# Altium schematic symbol library EL_Wire_Harness.SchLib: 86 symbols
Pins are listed as number, name and electrical type; pins without a type are passive.

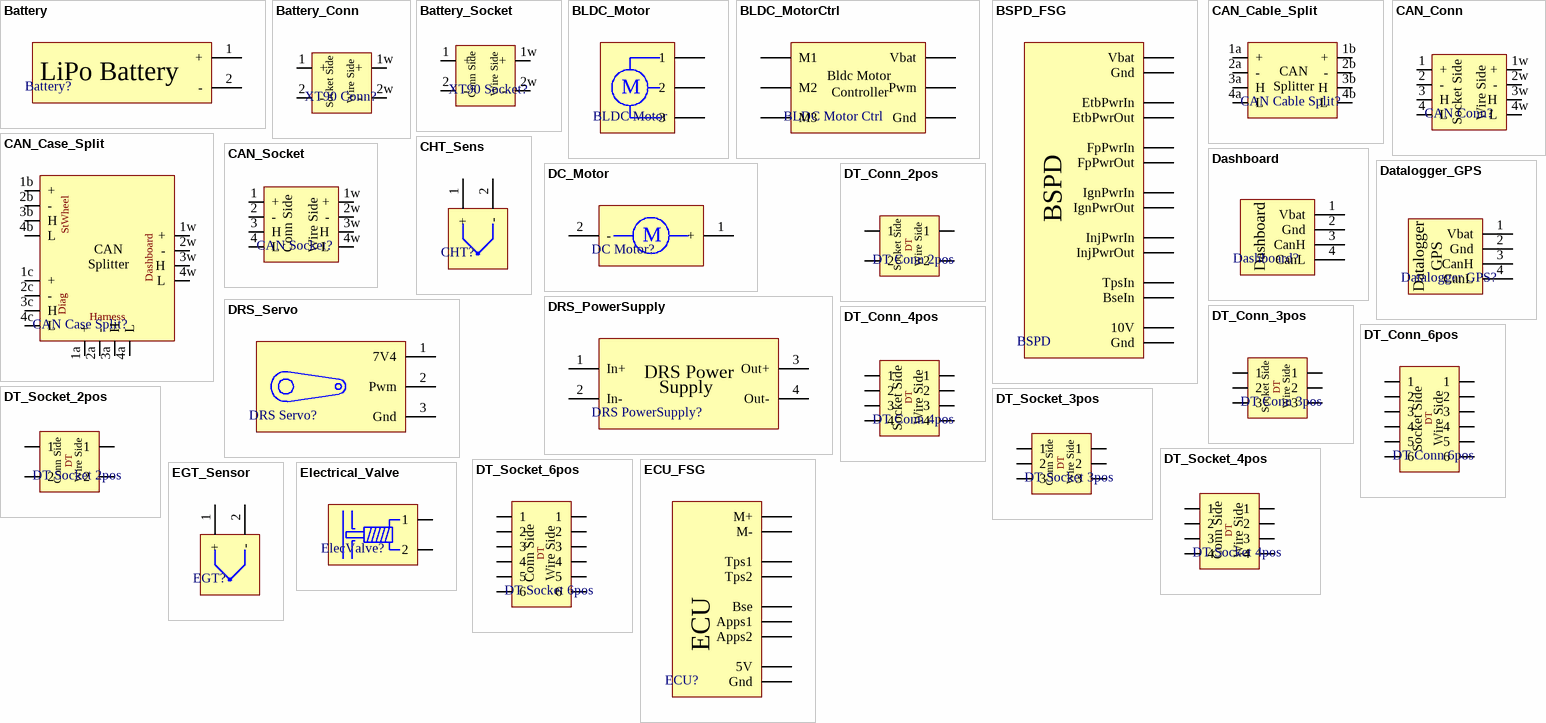
[diagram p0: symbols Battery to Electrical_Valve]

## Battery
designator Battery?, comment LiPo Battery  (value not drawn)
Type: Battery
pins: 1 +, 2 -

## Battery_Conn
designator XT90 Conn?, comment LiPo Battery Connector  (value not drawn)
Positions: 2; Type: Connector; Supplier Link: http://www.sklep.monster.pl/wtyk-2-pin-xt-90,4,55723,61930; Supplier: MONSTER-ELEKTRONIK; Use: Battery
pins: 1 +, 1w +, 2 -, 2w -
text: Socket Side; Wire Side

## Battery_Socket
designator XT90 Socket?, comment LiPo Battery Socket  (value not drawn)
Positions: 2; Type: Socket; Supplier: MONSTER-ELEKTRONIK; Supplier Link: http://www.sklep.monster.pl/gniazdo-2-pin-xt-90,4,55723,61925; Use: Battery
pins: 1 +, 1w +, 2 -, 2w -
text: Conn Side; Wire Side

## BLDC_Motor
designator BLDC Motor, comment BLDC Motor  (value not drawn)
Brushless DC Motor; Type: DC Motor
pins: 1, 2, 3
text: M

## BLDC_MotorCtrl
designator BLDC Motor Ctrl, comment BLDC Motor Ctrl  (value not drawn)
Brushless DC Motor Controller; Type: BLDC Motor Controller
pins: 1 Vbat, 2 Pwm, 3 Gnd, M1, M2, M3
text: Bldc Motor; Controller

## BSPD_FSG
designator BSPD, comment BSPD  (value not drawn)
Brake System Plausibility Device; Type: Analog Module; Supplier: Self Made/TME
pins: E1 IgnPwrOut, E2 EtbPwrIn, E3 EtbPwrOut, E4 10V, E5 Gnd, E6 InjPwrOut, E7 TpsIn, E8 BseIn, P1 FpPwrIn, P2 FpPwrOut, P5 IgnPwrIn, P9 Vbat, P13 Gnd, P14 InjPwrIn

## CAN_Cable_Split
designator CAN Cable Split?, comment CAN Cable Splitter  (value not drawn)
Type: CAN Cable Splitter; Supplier: Self Made/PCB
pins: 1a +, 1b +, 2a -, 2b -, 3a H, 3b H, 4a L, 4b L
text: CAN; Splitter

## CAN_Case_Split
designator CAN Case Split?, comment CAN Case Splitter  (value not drawn)
Type: CAN Case Splitter; Supplier: Self Made
pins: 1a +, 1b +, 1c +, 1w +, 2a -, 2b -, 2c -, 2w -, 3a H, 3b H, 3c H, 3w H, 4a L, 4b L, 4c L, 4w L
text: StWheel; CAN; Splitter; Dashboard; Diag; Harness

## CAN_Conn
designator CAN Conn?, comment CAN Connector  (value not drawn)
CAN Connector with Wire; Positions: 4; Type: Connector; Supplier: TME; Use: CAN
pins: 1 +, 1w +, 2 -, 2w -, 3 H, 3w H, 4 L, 4w L
text: Socket Side; Wire Side

## CAN_Socket
designator CAN Socket?, comment CAN Socket  (value not drawn)
CAN Socket for Wire; Positions: 4; Supplier: TME; Type: Socket; Use: CAN
pins: 1 +, 1w +, 2 -, 2w -, 3 H, 3w H, 4 L, 4w L
text: Conn Side; Wire Side

## CHT_Sens
designator CHT?, comment Cylinder Head Temp Sensor  (value not drawn)
Type: Sensor; Supplier: Ecumaster; Supplier Link: http://efishop.pl/index.php?p92,czujnik-temperatury-glowicy
pins: 1 +, 2 -

## Dashboard
designator Dashboard?  (value not drawn)
Type: CAN Module; Supplier: Self Made/TME
pins: 1 Vbat, 2 Gnd, 3 CanH, 4 CanL

## Datalogger_GPS
designator Datalogger GPS?, comment Datalogger GPS  (value not drawn)
Supplier: Self Made/TME; Type: CAN Module
pins: 1 Vbat, 2 Gnd, 3 CanH, 4 CanL
text: GPS; Datalogger

## DC_Motor
designator DC Motor?, comment DC Motor  (value not drawn)
Type: DC Motor
pins: 1 +, 2 -
text: M

## DRS_PowerSupply
designator DRS PowerSupply?, comment DRS PowerSupply  (value not drawn)
Supplier: Self Made/TME; Type: Power Supply
pins: 1 In+, 2 In-, 3 Out+, 4 Out-
text: DRS Power; Supply

## DRS_Servo
designator DRS Servo?, comment DRS Servo  (value not drawn)
Type: Servomotor; Supplier Link: https://botland.com.pl/serwa-typu-standard/2041-serwo-powerhd-hd-1235mg-gigant.html; Supplier: Botland
pins: 1 7V4, 2 Pwm, 3 Gnd

## DT_Conn_2pos
designator DT Conn 2pos, comment DEUTSCH DT Connector 2pos  (value not drawn)
DEUTSCH DT Connector 2 positions; Positions: 2; Supplier: e-connectors; Supplier Link: http://www.e-connectors.pl/pl/p/Zlacze-DEUTSCH-DT-2-pinowe/183; Type: Connector
pins: 1, 1w 1, 2, 2w 2
text: DT; Socket Side; Wire Side

## DT_Conn_3pos
designator DT Conn 3pos, comment DEUTSCH DT Connector 3pos  (value not drawn)
DEUTSCH DT Connector 3 positions; Positions: 3; Supplier: e-connectors; Supplier Link: http://www.e-connectors.pl/pl/p/Zlacze-DEUTSCH-DT-3-pinowe/184; Type: Connector
pins: 1, 1w 1, 2, 2w 2, 3, 3w 3
text: DT; Socket Side; Wire Side

## DT_Conn_4pos
designator DT Conn 4pos, comment DEUTSCH DT Connector 4pos  (value not drawn)
DEUTSCH DT Connector 4 positions; Positions: 4; Supplier: e-connectors; Supplier Link: http://www.e-connectors.pl/pl/p/Zlacze-DEUTSCH-DT-4-pinowe/185; Type: Connector
pins: 1, 1w 1, 2, 2w 2, 3, 3w 3, 4, 4w 4
text: DT; Socket Side; Wire Side

## DT_Conn_6pos
designator DT Conn 6pos, comment DEUTSCH DT Connector 6pos  (value not drawn)
DEUTSCH DT Connector 6 positions; Positions: 6; Supplier: e-connectors; Supplier Link: http://www.e-connectors.pl/pl/p/Zlacze-DEUTSCH-DT-6-pinowe/186; Type: Connector
pins: 1, 1w 1, 2, 2w 2, 3, 3w 3, 4, 4w 4, 5, 5w 5, 6, 6w 6
text: DT; Socket Side; Wire Side

## DT_Socket_2pos
designator DT Socket 2pos, comment DEUTSCH DT Socket 2pos  (value not drawn)
DEUTSCH DT Socket 2 positions; Positions: 2; Supplier: e-connectors; Supplier Link: http://www.e-connectors.pl/pl/p/Zlacze-DEUTSCH-DT-2-pinowe/183; Type: Socket
pins: 1, 1w 1, 2, 2w 2
text: DT; Conn Side; Wire Side

## DT_Socket_3pos
designator DT Socket 3pos, comment DEUTSCH DT Socket 3pos  (value not drawn)
DEUTSCH DT Socket 3 positions; Positions: 3; Supplier: e-connectors; Supplier Link: http://www.e-connectors.pl/pl/p/Zlacze-DEUTSCH-DT-3-pinowe/184; Type: Socket
pins: 1, 1w 1, 2, 2w 2, 3, 3w 3
text: DT; Conn Side; Wire Side

## DT_Socket_4pos
designator DT Socket 4pos, comment DEUTSCH DT Socket 4pos  (value not drawn)
DEUTSCH DT Socket 4 positions; Positions: 4; Supplier: e-connectors; Supplier Link: http://www.e-connectors.pl/pl/p/Zlacze-DEUTSCH-DT-4-pinowe/185; Type: Socket
pins: 1, 1w 1, 2, 2w 2, 3, 3w 3, 4, 4w 4
text: DT; Conn Side; Wire Side

## DT_Socket_6pos
designator DT Socket 6pos, comment DEUTSCH DT Socket 6pos  (value not drawn)
DEUTSCH DT Socket 6 positions; Positions: 6; Supplier: e-connectors; Supplier Link: http://www.e-connectors.pl/pl/p/Zlacze-DEUTSCH-DT-6-pinowe/186; Type: Socket
pins: 1, 1w 1, 2, 2w 2, 3, 3w 3, 4, 4w 4, 5, 5w 5, 6, 6w 6
text: DT; Conn Side; Wire Side

## ECU_FSG
designator ECU?, comment ECU  (value not drawn)
Engine Control Unit
pins: 1 M-, 2 Gnd, 3 5V, 4 M+, 5 Tps2, 6 Tps1, 7 Bse, 8 Apps1, 9 Apps2

## EGT_Sensor
designator EGT?, comment EGT Sensor  (value not drawn)
Type: Sensor; Supplier: Ecumaster; Supplier Link: http://efishop.pl/index.php?p50,czujnik-egt
pins: 1 +, 2 -

## Electrical_Valve
designator ElecValve?, comment Electrical Valve  (value not drawn)
Type: Electrical Valve
pins: 1, 2

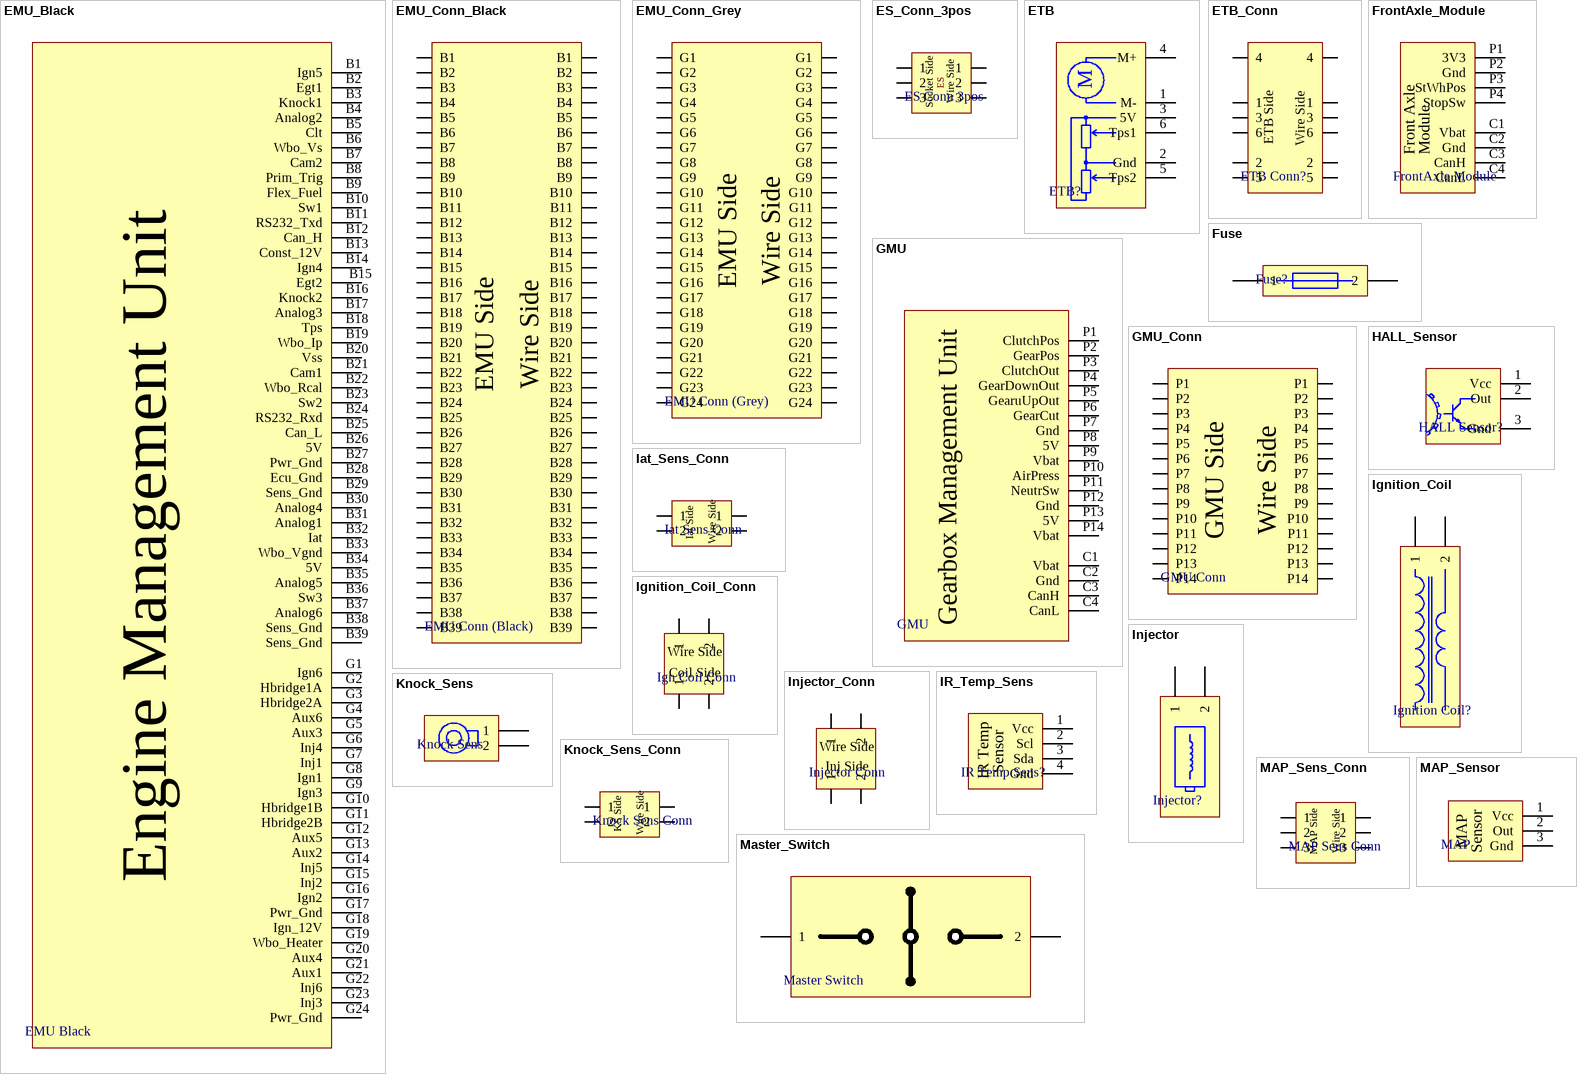
[diagram p1: symbols EMU_Black to Master_Switch]

## EMU_Black
designator EMU Black, comment ECU  (value not drawn)
ECU, EMU Black, Ecumaster; Type: ECU; Supplier: Ecumaster; Supplier Link: http://efishop.pl/index.php?p99,ecumaster-emu-black
pins:  B15 Egt2, B1 Ign5, B2 Egt1, B3 Knock1, B4 Analog2, B5 Clt, B6 Wbo_Vs, B7 Cam2, B8 Prim_Trig, B9 Flex_Fuel, B10 Sw1, B11 RS232_Txd, B12 Can_H, B13 Const_12V, B14 Ign4, B16 Knock2, B17 Analog3, B18 Tps, B19 Wbo_Ip, B20 Vss, B21 Cam1, B22 Wbo_Rcal, B23 Sw2, B24 RS232_Rxd, B25 Can_L, B26 5V, B27 Pwr_Gnd, B28 Ecu_Gnd, B29 Sens_Gnd, B30 Analog4, B31 Analog1, B32 Iat, B33 Wbo_Vgnd, B34 5V, B35 Analog5, B36 Sw3, B37 Analog6, B38 Sens_Gnd, B39 Sens_Gnd, G1 Ign6, G2 Hbridge1A, G3 Hbridge2A, G4 Aux6, G5 Aux3, G6 Inj4, G7 Inj1, G8 Ign1, G9 Ign3, G10 Hbridge1B, G11 Hbridge2B, G12 Aux5, G13 Aux2, G14 Inj5, G15 Inj2, G16 Ign2, G17 Pwr_Gnd, G18 Ign_12V, G19 Wbo_Heater, G20 Aux4, G21 Aux1, G22 Inj6, G23 Inj3, G24 Pwr_Gnd
text: Engine Management Unit

## EMU_Conn_Black
designator EMU Conn (Black), comment EMU Connector (Black)  (value not drawn)
Black Connector, EMU Black, Ecumaster; Positions: 39; Type: Connector; Supplier: Ecumaster; Supplier Link: http://efishop.pl/index.php?p101,wtyczki-emu-black; Use: EMU
pins: B1, B1w B1, B2, B2w B2, B3, B3w B3, B4, B4w B4, B5, B5w B5, B6, B6w B6, B7, B7w B7, B8, B8w B8, B9, B9w B9, B10, B10w B10, B11, B11w B11, B12, B12w B12, B13, B13w B13, B14, B14w B14, B15, B15w B15, B16, B16w B16, B17, B17w B17, B18, B18w B18, B19, B19w B19, B20, B20w B20, B21, B21w B21, B22, B22w B22, B23, B23w B23, B24, B24w B24, B25, B25w B25, B26, B26w B26, B27, B27w B27, B28, B28w B28, B29, B29w B29, B30, B30w B30, B31, B31w B31, B32, B32w B32, B33, B33w B33, B34, B34w B34, B35, B35w B35, B36, B36w B36, B37, B37w B37, B38, B38w B38, B39, B39w B39
text: Wire Side; EMU Side

## EMU_Conn_Grey
designator EMU Conn (Grey), comment EMU Connector (Grey)  (value not drawn)
Grey Connector, EMU Black, Ecumaster; Positions: 24; Type: Connector; Supplier Link: http://efishop.pl/index.php?p101,wtyczki-emu-black; Supplier: Ecumaster; Use: EMU
pins: G1, G1w G1, G2, G2w G2, G3, G3w G3, G4, G4w G4, G5, G5w G5, G6, G6w G6, G7, G7w G7, G8, G8w G8, G9, G9w G9, G10, G10w G10, G11, G11w G11, G12, G12w G12, G13, G13w G13, G14, G14w G14, G15, G15w G15, G16, G16w G16, G17, G17w G17, G18, G18w G18, G19, G19w G19, G20, G20w G20, G21, G21w G21, G22, G22w G22, G23, G23w G23, G24, G24w G24
text: Wire Side; EMU Side

## ES_Conn_3pos
designator ES Conn 3pos, comment EconoSeal Connector 3pos  (value not drawn)
EconoSeal Connector 3 positions; Positions: 3; Supplier: e-connectors; Type: Connector
pins: 1, 1w 1, 2, 2w 2, 3, 3w 3
text: ES; Socket Side; Wire Side

## ETB
designator ETB?  (value not drawn)
Electronic Throttle Body; Type: Electronic Throttle
pins: 1 M-, 2 Gnd, 3 5V, 4 M+, 5 Tps2, 6 Tps1
text: M

## ETB_Conn
designator ETB Conn?, comment ETB Connector  (value not drawn)
Electronic Throttle Body Connector; Positions: 6; Type: Connector; Use: ETB
pins: 1, 1w 1, 2, 2w 2, 3, 3w 3, 4, 4w 4, 5, 5w 5, 6, 6w 6
text: ETB Side; Wire Side

## FrontAxle_Module
designator FrontAxle Module, comment FrontAxle Module  (value not drawn)
Type: CAN Module; Supplier: Self Made/TME
pins: C1 Vbat, C2 Gnd, C3 CanH, C4 CanL, P1 3V3, P2 Gnd, P3 StWhPos, P4 StopSw
text: Front Axle; Module

## Fuse
designator Fuse?  (value not drawn)
Type: Fuse
pins: 1, 2

## GMU
designator GMU  (value not drawn)
Gearbox Management Unit; Type: CAN Module; Supplier: Self Made/TME
pins: C1 Vbat, C2 Gnd, C3 CanH, C4 CanL, P1 ClutchPos, P2 GearPos, P3 ClutchOut, P4 GearDownOut, P5 GearuUpOut, P6 GearCut, P7 Gnd, P8 5V, P9 Vbat, P10 AirPress, P11 NeutrSw, P12 Gnd, P13 5V, P14 Vbat

## GMU_Conn
designator GMU Conn, comment GMU Connector  (value not drawn)
GMU Peripheral Connector; Positions: 14; Type: Connector; Supplier: Mouser; Use: GMU
pins: P1, P1w P1, P2, P2w P2, P3, P3w P3, P4, P4w P4, P5, P5w P5, P6, P6w P6, P7, P7w P7, P8, P8w P8, P9, P9w P9, P10, P10w P10, P11, P11w P11, P12, P12w P12, P13, P13w P13, P14, P14w P14
text: Wire Side; GMU Side

## HALL_Sensor
designator HALL Sensor?, comment HALL Effect Sensor  (value not drawn)
Type: Sensor; Supplier: TME
pins: 1 Vcc, 2 Out, 3 Gnd

## Iat_Sens_Conn
designator Iat Sens Conn, comment Iat Sensor Connector  (value not drawn)
Positions: 2; Supplier Link: http://efishop.pl/index.php?p30,wtyczka-bosch-ev1; Supplier: Ecumaster; Type: Connector; Use: IAT
pins: 1, 1w 1, 2, 2w 2
text: Iat Side; Wire Side

## Ignition_Coil
designator Ignition Coil?, comment Ignition Coil  (value not drawn)
Ignition Coil, Honda; Type: Ignition Coil
pins: 1, 2

## Ignition_Coil_Conn
designator Ign Coil Conn, comment Ignition Coil Connector  (value not drawn)
Ignition Coil Connector, Honda; Positions: 2; Type: Connector; Supplier: e-connectors; Use: Ignition coil
pins: 1, 1w 1, 2, 2w 2
text: Wire Side; Coil Side

## Injector
designator Injector?  (value not drawn)
Type: Injector
pins: 1, 2

## Injector_Conn
designator Injector Conn, comment Injector Connector  (value not drawn)
Positions: 2; Type: Connector; Supplier: e-connectors; Supplier Link: https://www.e-connectors.pl/pl/p/Wtyczka-JPT-2-pinowa-z-oslona/509; Use: Injector
pins: 1, 1w 1, 2, 2w 2
text: Wire Side; Inj Side

## IR_Temp_Sens
designator IR Temp Sens?, comment IR Temp Sensor  (value not drawn)
Supplier: Self Made/TME; Type: Sensor
pins: 1 Vcc, 2 Scl, 3 Sda, 4 Gnd
text: IR Temp

## Knock_Sens
designator Knock Sens, comment Knock Sensor  (value not drawn)
Supplier Link: http://efishop.pl/index.php?p91,czujnik-spalania-stukowego-bosch; Supplier: Ecumaster; Type: Sensor
pins: 1, 2

## Knock_Sens_Conn
designator Knock Sens Conn, comment Knock Sensor Connector  (value not drawn)
Positions: 2; Supplier Link: http://efishop.pl/index.php?p30,wtyczka-bosch-ev1; Supplier: Ecumaster; Type: Connector; Use: Knock sensor
pins: 1, 1w 1, 2, 2w 2
text: KS Side; Wire Side

## MAP_Sens_Conn
designator MAP Sens Conn, comment MAP Sensor Connector  (value not drawn)
Positions: 3; Supplier: Honda harness; Type: Connector; Use: MAP sensor
pins: 1, 1w 1, 2, 2w 2, 3, 3w 3
text: MAP Side; Wire Side

## MAP_Sensor
designator MAP, comment MAP Sensor  (value not drawn)
Type: Sensor
pins: 1 Vcc, 2 Out, 3 Gnd

## Master_Switch
designator Master Switch, comment Master Switch  (value not drawn)
Type: Switch; Supplier: 2Brally; Supplier Link: https://motorsport.2brally.pl/pl/wylacznik-glowny-pradu-6-polowy-fia.html
pins: 1, 2

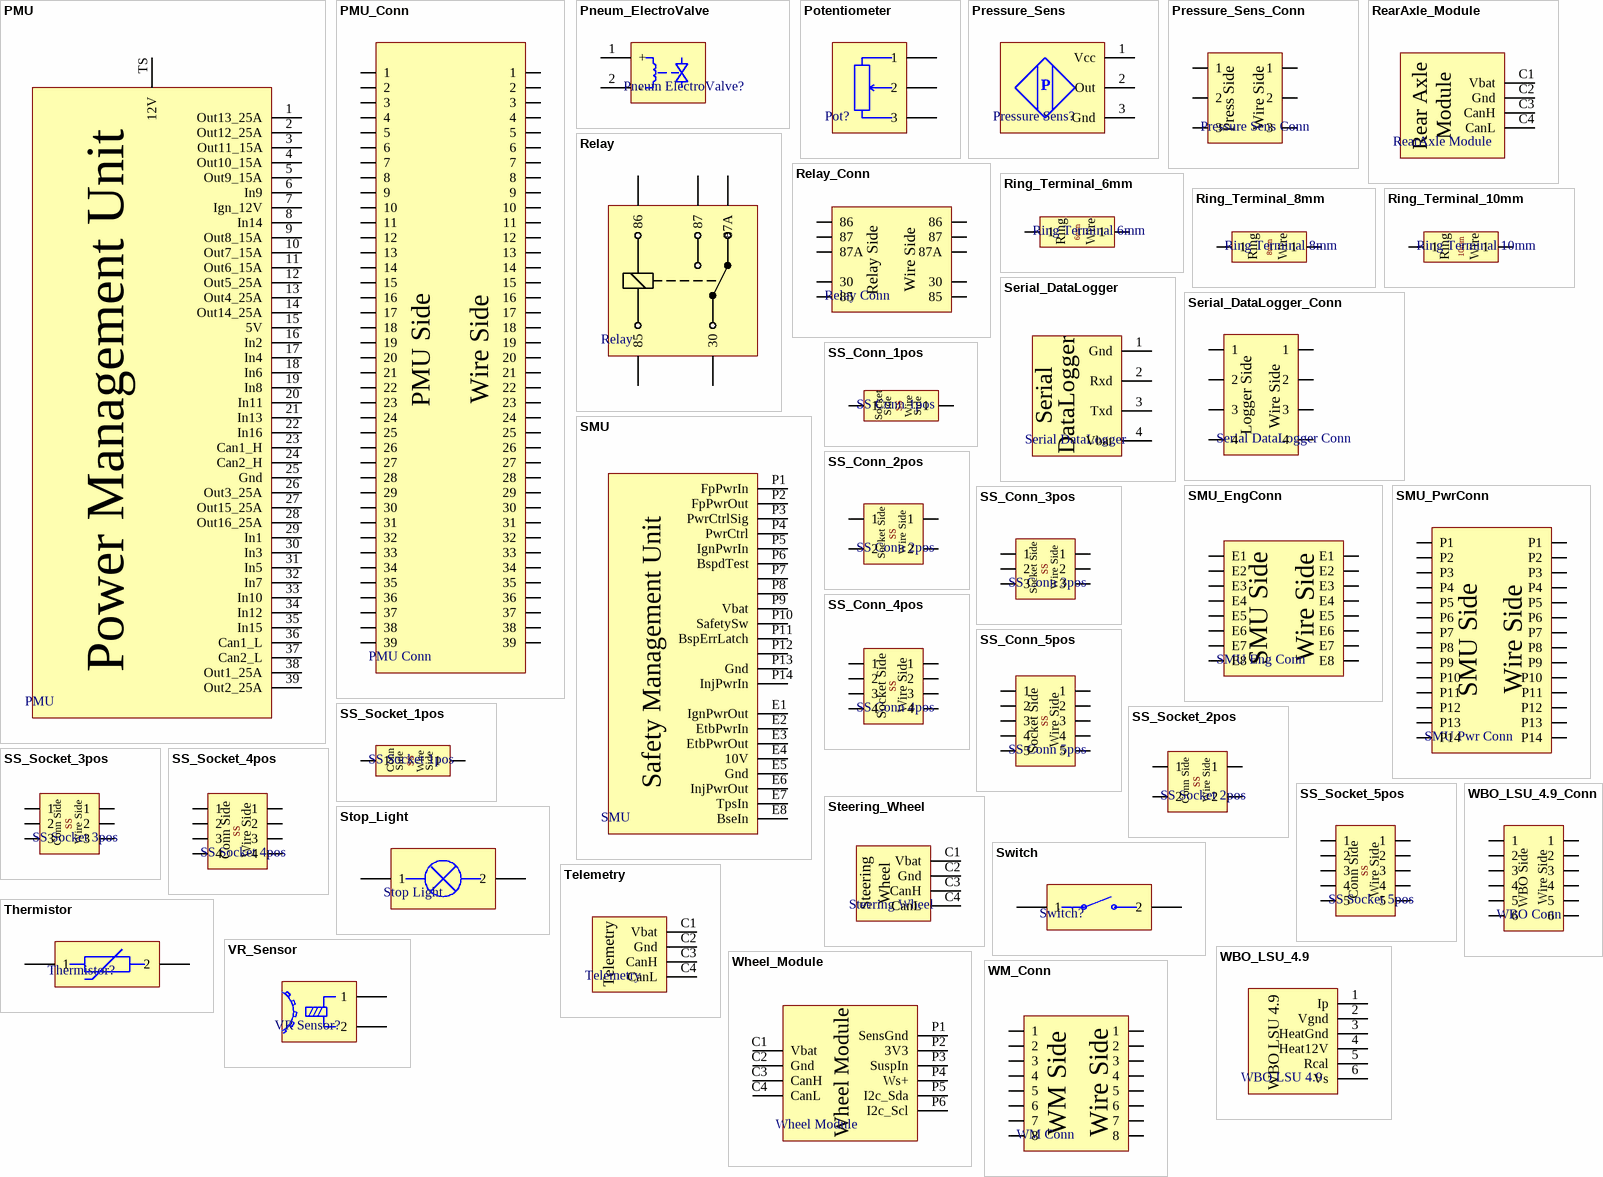
[diagram p2: symbols PMU to WM_Conn]

## PMU
designator PMU  (value not drawn)
Power Management Unit, Ecumaster; Type: PMU; Supplier: Ecumaster; Supplier Link: http://efishop.pl/index.php?p121,ecumaster-pmu16-dl
pins: 1 Out13_25A, 2 Out12_25A, 3 Out11_15A, 4 Out10_15A, 5 Out9_15A, 6 In9, 7 Ign_12V, 8 In14, 9 Out8_15A, 10 Out7_15A, 11 Out6_15A, 12 Out5_25A, 13 Out4_25A, 14 Out14_25A, 15 5V, 16 In2, 17 In4, 18 In6, 19 In8, 20 In11, 21 In13, 22 In16, 23 Can1_H, 24 Can2_H, 25 Gnd, 26 Out3_25A, 27 Out15_25A, 28 Out16_25A, 29 In1, 30 In3, 31 In5, 32 In7, 33 In10, 34 In12, 35 In15, 36 Can1_L, 37 Can2_L, 38 Out1_25A, 39 Out2_25A, TS 12V
text: Power Management Unit

## PMU_Conn
designator PMU Conn, comment PMU Connector  (value not drawn)
PMU Connector, Ecumaster; Positions: 39; Type: Connector; Supplier: Ecumaster; Supplier Link: http://efishop.pl/index.php?p121,ecumaster-pmu16-dl; Use: PMU
pins: 1, 1w 1, 2, 2w 2, 3, 3w 3, 4, 4w 4, 5, 5w 5, 6, 6w 6, 7, 7w 7, 8, 8w 8, 9, 9w 9, 10w 10, 11, 11w 11, 12, 12w 12, 13, 13w 13, 14, 14w 14, 15, 15w 15, 16, 16w 16, 17, 17w 17, 18, 18w 18, 19, 19w 19, 20, 20w 20, 21, 21w 21, 22, 22w 22, 23, 23w 23, 24, 24w 24, 25, 25w 25, 26, 26w 26, 27, 27w 27, 28, 28w 28, 29, 29w 29, 30, 30w 30, 31, 31w 31, 32, 32w 32, 33, 33w 33, 34, 34w 34, 35, 35w 35, 36, 36w 36, 37, 37w 37, 38, 38w 38, 39, 39w 39, OUT_7_15A 10
text: Wire Side; PMU Side

## Pneum_ElectroValve
designator Pneum ElectroValve?, comment Pneumatic ElectroValve  (value not drawn)
Type: Electrovalve
pins: 1 +, 2 -

## Potentiometer
designator Pot?  (value not drawn)
Type: Sensor; Supplier: Self Made/TME
pins: 1, 2, 3

## Pressure_Sens
designator Pressure Sens?, comment Pressure Sensor  (value not drawn)
Type: Sensor; Supplier: Ecumaster; Supplier Link: http://efishop.pl/index.php?p64,10-barowy-czujnik-cisnienia-oleju
pins: 1 Vcc, 2 Out, 3 Gnd
text: P

## Pressure_Sens_Conn
designator Pressure Sens Conn, comment Pressure Sensor Connector  (value not drawn)
Positions: 3; Supplier Link: http://efishop.pl/index.php?p105,wtyczka-czujnika-cisnienia-7bar-10bar; Supplier: Ecumaster; Type: Connector; Use: Pressure sensor
pins: 1, 1w 1, 2, 2w 2, 3, 3w 3
text: Wire Side; Press Side

## RearAxle_Module
designator RearAxle Module, comment RearAxle Module  (value not drawn)
Type: CAN Module; Supplier: Self Made/TME
pins: C1 Vbat, C2 Gnd, C3 CanH, C4 CanL
text: Module; Rear Axle

## Relay
designator Relay  (value not drawn)
Type: Relay; Supplier: e-connectors; Supplier Link: http://www.e-connectors.pl/pl/p/Przekaznik-ORION-ON-ON-12V-2030A/2399
pins: 30, 85, 86, 87, 87A

## Relay_Conn
designator Relay Conn, comment Relay Connector  (value not drawn)
Positions: 5; Type: Connector; Supplier: e-connectors; Supplier Link: http://www.e-connectors.pl/pl/p/Podstawa-przekaznika-/463; Use: Relay
pins: 30, 30w 30, 85, 85w 85, 86, 86w 86, 87, 87A, 87Aw 87A, 87w 87
text: Wire Side; Relay Side

## Ring_Terminal_6mm
designator Ring Terminal 6mm, comment Ring Terminal 6mm  (value not drawn)
Positions: 1; Use: Power; Type: Connector; Supplier: TME
pins: 1, 1w 1
text: 6mm; Ring; Wire

## Ring_Terminal_8mm
designator Ring Terminal 8mm, comment Ring Terminal 8mm  (value not drawn)
Use: Power; Positions: 1; Type: Connector; Supplier: TME
pins: 1, 1w 1
text: 8mm; Ring; Wire

## Ring_Terminal_10mm
designator Ring Terminal 10mm, comment Ring Terminal 10mm  (value not drawn)
Use: Power; Positions: 1; Type: Connector; Supplier: TME
pins: 1, 1w 1
text: 10mm; Ring; Wire

## Serial_DataLogger
designator Serial DataLogger, comment EMU Logger  (value not drawn)
DataLogger for EMU over Serial, Ecumaster; Supplier: Ecumaster; Type: SerialLogger; Supplier Link: http://efishop.pl/index.php?p106,ecumaster-data-logger-edl-1
pins: 1 Gnd, 2 Rxd, 3 Txd, 4 Vbat
text: Serial; DataLogger

## Serial_DataLogger_Conn
designator Serial DataLogger Conn, comment EMU Logger Connector  (value not drawn)
Serial DataLogger Connector, Ecumaster; Positions: 4; Type: Connector; Supplier: Ecumaster; Supplier Link: http://efishop.pl/index.php?p104,wtyczka-ecumaster-data-logger-edl1; Use: Serial datalogger
pins: 1, 1w 1, 2, 2w 2, 3, 3w 3, 4, 4w 4
text: Logger Side; Wire Side

## SMU
designator SMU  (value not drawn)
Safety Management Unit; Type: Analog Module; Supplier: Self Made/TME
pins: E1 IgnPwrOut, E2 EtbPwrIn, E3 EtbPwrOut, E4 10V, E5 Gnd, E6 InjPwrOut, E7 TpsIn, E8 BseIn, P1 FpPwrIn, P2 FpPwrOut, P3 PwrCtrlSig, P4 PwrCtrl, P5 IgnPwrIn, P6 BspdTest, P7, P8, P9 Vbat, P10 SafetySw, P11 BspErrLatch, P12, P13 Gnd, P14 InjPwrIn

## SMU_EngConn
designator SMU Eng Conn, comment SMU Engine Connector  (value not drawn)
Positions: 8; Type: Connector; Supplier: Mouser; Use: SMU
pins: E1, E1w E1, E2, E2w E2, E3, E3w E3, E4, E4w E4, E5, E5w E5, E6, E6w E6, E7, E7w E7, E8, E8w E8
text: Wire Side; SMU Side

## SMU_PwrConn
designator SMU Pwr Conn, comment SMU Power Connector  (value not drawn)
Positions: 14; Type: Connector; Supplier: Mouser; Use: SMU
pins: P1, P1w P1, P2, P2w P2, P3, P3w P3, P4, P4w P4, P5, P5w P5, P6, P6w P6, P7, P7w P7, P8, P8w P8, P9, P9w P9, P10, P10w P10, P11, P11w P11, P12, P12w P12, P13, P13w P13, P14, P14w P14
text: Wire Side; SMU Side

## SS_Conn_1pos
designator SS Conn 1pos, comment SuperSeal Connector 1pos  (value not drawn)
SuperSeal Connector 1 position; Positions: 1; Supplier: e-connectors; Supplier Link: http://www.e-connectors.pl/pl/p/Wtyczka-hermetyczna-1-pinowa-Superseal-1.5/353; Type: Connector
pins: 1, 1w 1
text: Side; SS; Socket; Wire

## SS_Conn_2pos
designator SS Conn 2pos, comment SuperSeal Connector 2pos  (value not drawn)
SuperSeal Connector 2 positions; Positions: 2; Supplier: e-connectors; Supplier Link: http://www.e-connectors.pl/pl/p/Wtyczka-hermetyczna-2-pinowa-Superseal-1%2C5/354; Type: Connector
pins: 1, 1w 1, 2, 2w 2
text: SS; Socket Side; Wire Side

## SS_Conn_3pos
designator SS Conn 3pos, comment SuperSeal Connector 3pos  (value not drawn)
SuperSeal Connector 3 positions; Positions: 3; Supplier: e-connectors; Supplier Link: http://www.e-connectors.pl/pl/p/Wtyczka-hermetyczna-3-pinowa-Superseal-1%2C5/355; Type: Connector
pins: 1, 1w 1, 2, 2w 2, 3, 3w 3
text: SS; Socket Side; Wire Side

## SS_Conn_4pos
designator SS Conn 4pos, comment SuperSeal Connector 4pos  (value not drawn)
SuperSeal Connector 4 positions; Positions: 4; Supplier: e-connectors; Supplier Link: http://www.e-connectors.pl/pl/p/Wtyczka-hermetyczna-4-pinowa-Superseal-1%2C5/356; Type: Connector
pins: 1, 1w 1, 2, 2w 2, 3, 3w 3, 4, 4w 4
text: SS; Socket Side; Wire Side

## SS_Conn_5pos
designator SS Conn 5pos, comment SuperSeal Connector 5pos  (value not drawn)
SuperSeal Connector 5 positions; Positions: 5; Supplier: e-connectors; Supplier Link: http://www.e-connectors.pl/pl/p/Wtyczka-hermetyczna-5-pinowa-Superseal-1%2C5/357; Type: Connector
pins: 1, 1w 1, 2, 2w 2, 3, 3w 3, 4, 4w 4, 5, 5w 5
text: SS; Socket Side; Wire Side

## SS_Socket_1pos
designator SS Socket 1pos, comment SuperSeal Socket 1pos  (value not drawn)
SuperSeal Socket 1 position; Positions: 1; Supplier: e-connectors; Supplier Link: http://www.e-connectors.pl/pl/p/Gniazdo-hermetyczne-1-pinowe-Superseal-1%2C5/347; Type: Socket
pins: 1, 1w 1
text: Side; SS; Conn; Wire

## SS_Socket_2pos
designator SS Socket 2pos, comment SuperSeal Socket 2pos  (value not drawn)
SuperSeal Socket 2 positions; Positions: 2; Supplier: e-connectors; Supplier Link: http://www.e-connectors.pl/pl/p/Gniazdo-hermetyczne-2-pinowe-Superseal-1%2C5/348; Type: Socket
pins: 1, 1w 1, 2, 2w 2
text: SS; Conn Side; Wire Side

## SS_Socket_3pos
designator SS Socket 3pos, comment SuperSeal Socket 3pos  (value not drawn)
SuperSeal Socket 3 positions; Positions: 3; Supplier: e-connectors; Supplier Link: http://www.e-connectors.pl/pl/p/Gniazdo-hermetyczne-3-pinowe-Superseal-1%2C5/349; Type: Socket
pins: 1, 1w 1, 2, 2w 2, 3, 3w 3
text: SS; Conn Side; Wire Side

## SS_Socket_4pos
designator SS Socket 4pos, comment SuperSeal Socket 4pos  (value not drawn)
SuperSeal Socket 4 positions; Positions: 4; Supplier: e-connectors; Supplier Link: http://www.e-connectors.pl/pl/p/Gniazdo-hermetyczne-4-pinowe-Superseal-1%2C5/350; Type: Socket
pins: 1, 1w 1, 2, 2w 2, 3, 3w 3, 4, 4w 4
text: SS; Conn Side; Wire Side

## SS_Socket_5pos
designator SS Socket 5pos, comment SuperSeal Socket 5pos  (value not drawn)
SuperSeal Socket 5 positions; Positions: 5; Supplier: e-connectors; Supplier Link: http://www.e-connectors.pl/pl/p/Gniazdo-hermetyczne-5-pinowe-Superseal-1%2C5-/351; Type: Socket
pins: 1, 1w 1, 2, 2w 2, 3, 3w 3, 4, 4w 4, 5, 5w 5
text: SS; Conn Side; Wire Side

## Steering_Wheel
designator Steering Wheel, comment Steering Wheel  (value not drawn)
Type: CAN Module; Supplier: Self Made/TME
pins: C1 Vbat, C2 Gnd, C3 CanH, C4 CanL
text: Wheel; Steering

## Stop_Light
designator Stop Light, comment Stop Light  (value not drawn)
Type: Stop Light; Supplier: Self Made/TME
pins: 1, 2

## Switch
designator Switch?  (value not drawn)
Type: Switch
pins: 1, 2

## Telemetry
designator Telemetry  (value not drawn)
Type: CAN Module; Supplier: Self Made/TME
pins: C1 Vbat, C2 Gnd, C3 CanH, C4 CanL

## Thermistor
designator Thermistor?  (value not drawn)
Type: Sensor
pins: 1, 2

## VR_Sensor
designator VR Sensor?, comment Variable Reluctance Sensor  (value not drawn)
Type: Sensor
pins: 1, 2

## WBO_LSU_4.9
designator WBO LSU 4.9, comment WBO LSU 4.9  (value not drawn)
WBO LSU 4.9, Bosch; Type: Sensor; Supplier: Ecumaster; Supplier Link: http://efishop.pl/index.php?p100,szerokopasmowa-sonda-lambda-bosch-lsu-4-9
pins: 1 Ip, 2 Vgnd, 3 HeatGnd, 4 Heat12V, 5 Rcal, 6 Vs

## WBO_LSU_4.9_Conn
designator WBO Conn, comment WBO Connector  (value not drawn)
WBO LSU 4.9 Connector, Ecumater; Positions: 6; Type: Connector; Supplier: Ecumaster; Supplier Link: http://efishop.pl/index.php?p59,wtyczka-dbw-1-8t-vag-dbw-bmw-oraz-bosch-lsu-4-9; Use: WBO
pins: 1, 1w 1, 2, 2w 2, 3, 3w 3, 4, 4w 4, 5, 5w 5, 6, 6w 6
text: WBO Side; Wire Side

## Wheel_Module
designator Wheel Module, comment Wheel Module  (value not drawn)
Type: CAN Module; Supplier: Self Made/TME
pins: C1 Vbat, C2 Gnd, C3 CanH, C4 CanL, P1 SensGnd, P2 3V3, P3 SuspIn, P4 Ws+, P5 I2c_Sda, P6 I2c_Scl

## WM_Conn
designator WM Conn, comment WM Connector  (value not drawn)
Wheel Module Connector; Positions: 8; Type: Connector; Supplier: Mouser; Use: Wheel Module
pins: 1, 1w 1, 2, 2w 2, 3, 3w 3, 4, 4w 4, 5, 5w 5, 6, 6w 6, 7, 7w 7, 8, 8w 8
text: WM Side; Wire Side